# Altium footprint library MINIBLDC.PcbLib: 12 footprints
Each footprint in its own frame and in the unit in brackets; x right, y up, seen from the top. Pads: shape width x height; smd on the part's side, far side on the other; paste and mask are expansions set on the pad; w line width, h text height; cw(c..) or ccw(c..) is an arc to the next point about the centre after c.
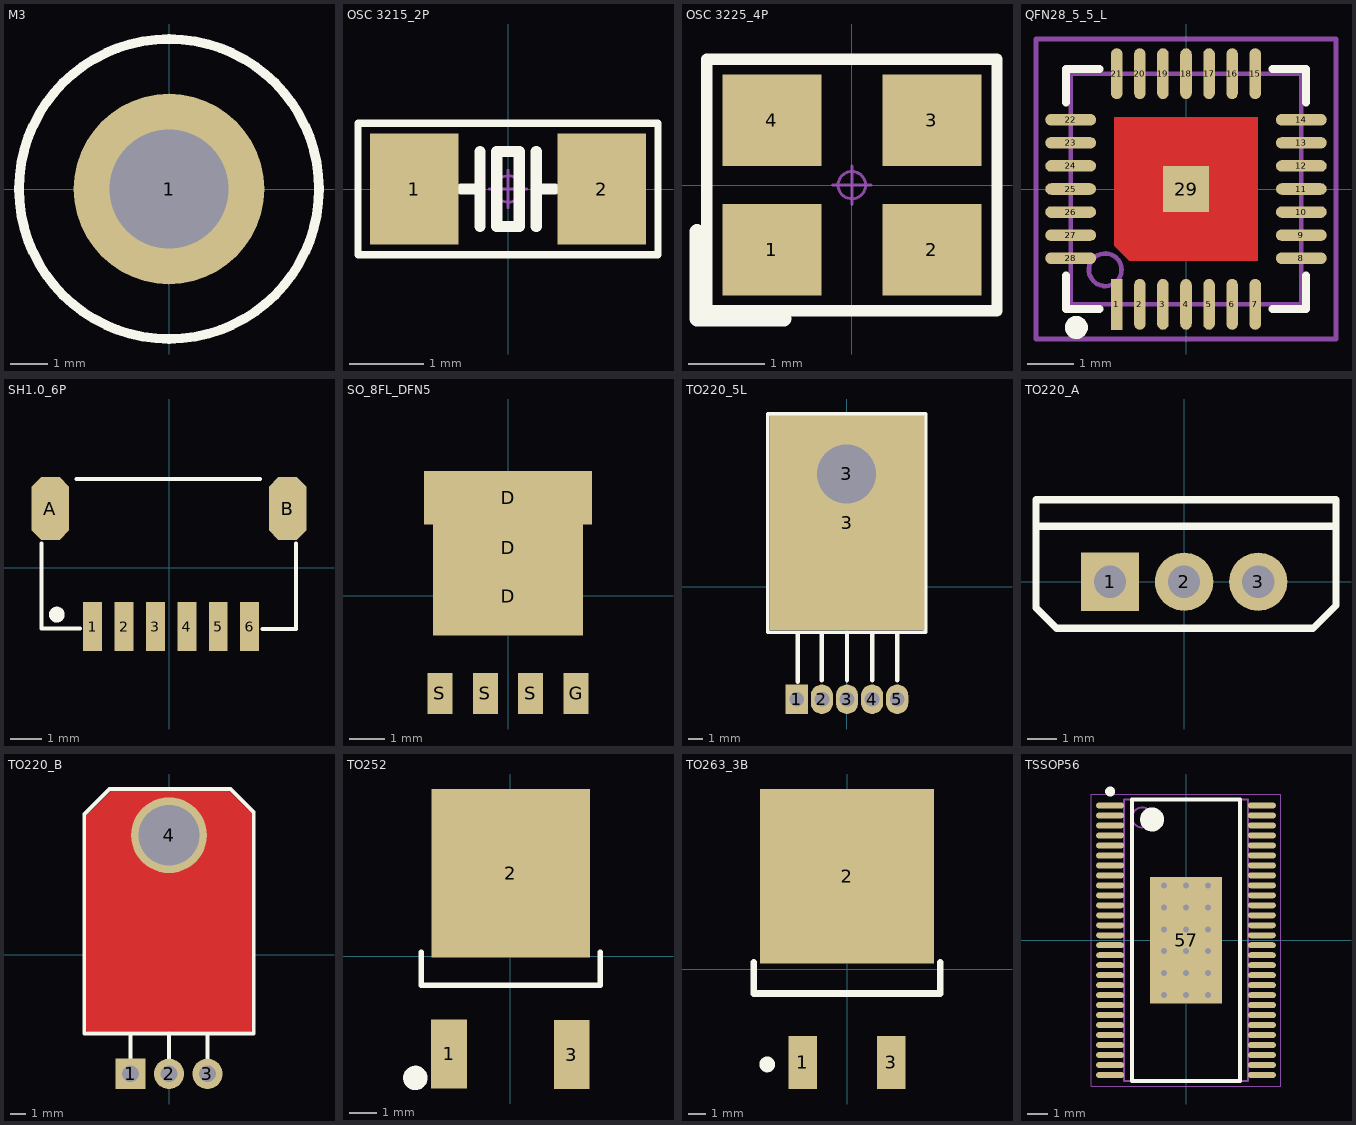
[diagram p0: the footprints below, top view; thin cyan lines are the x and y axes]

## M3 [mm]
pads (1):
  round 5.08 hole 3.175: 1(0,0)
Top Overlay:
  circle w0.254: c0,0 r4
3D body "M3x6.STEP": height -0.43, standoff -6.43, extent -2.698,-2.35 2.698,2.35

## OSC 3215_2P [mm]
pads (2):
  rect 1.2x1.5 smd: 1(-1.27,0) 2(1.27,0)
Top Overlay:
  lines w0.1: -2.032,-0.889 -2.032,0.889 2.032,0.889 2.032,-0.889 -2.032,-0.889
  lines w0.152: -0.635,0 -0.381,0 ; -0.381,-0.508 -0.381,0.508 ; 0.381,-0.508 0.381,0.508 ; 0.381,0 0.635,0 ; -0.152,-0.508 0.152,-0.508 0.152,0.508 -0.152,0.508 -0.152,-0.508
Mechanical 15:
  circle w0.04: c0,0 r0.18
  lines w0.04: -0.254,0 0.254,0 ; 0,-0.254 0,0.254
3D body "OSC 3215-2.STEP": height 0.61, standoff -0.01, extent -1.6,-0.75 1.6,0.75

## OSC 3225_4P [mm]
pads (4):
  rect 1.3x1.2 smd: 1(-1.05,-0.85) 2(1.05,-0.85) 3(1.05,0.85) 4(-1.05,0.85)
Top Overlay:
  lines w0.15: -1.905,-1.651 1.905,-1.651 1.905,1.651 -1.905,1.651 -1.905,-1.651
  lines w0.2: -2.032,-1.753 -0.889,-1.753 ; -2.032,-1.727 -2.032,-0.61
Mechanical 15:
  circle w0.04: c0,0 r0.18
  lines w0.04: -0.254,0 0.254,0 ; 0,-0.254 0,0.254
3D body "OSC 3225-4.STEP": height 0.7, standoff -0.02, extent -1.6,-1.25 1.6,1.25

## QFN28_5_5_L [mm]
pads (29):
  rect 0.25x1.1 smd: 1(-1.5,-2.5)
  oval 0.25x1.1 smd: 2(-1,-2.5) 3(-0.5,-2.5) 4(0,-2.5) 5(0.5,-2.5) 6(1,-2.5) 7(1.5,-2.5) 15(1.5,2.5) 16(1,2.5) 17(0.5,2.5) 18(0,2.5) 19(-0.5,2.5) 20(-1,2.5) 21(-1.5,2.5)
  oval 1.1x0.25 smd: 8(2.5,-1.5) 9(2.5,-1) 10(2.5,-0.5) 11(2.5,0) 12(2.5,0.5) 13(2.5,1) 14(2.5,1.5) 22(-2.5,1.5) 23(-2.5,1) 24(-2.5,0.5) 25(-2.5,0) 26(-2.5,-0.5) 27(-2.5,-1) 28(-2.5,-1.5)
  rect 1x1 smd: 29(0,0)
Top Layer:
  region: -1.55,1.55 1.55,1.55 1.55,-1.55 -1.225,-1.55 -1.55,-1.225
Top Overlay:
  circle w0.25: c-2.375,-3 r0.125
  lines w0.178: -2.6,-1.875 -2.6,-2.6 -1.875,-2.6 ; -2.6,1.875 -2.6,2.6 -1.875,2.6 ; 1.875,-2.6 2.6,-2.6 2.6,-1.875 ; 1.875,2.6 2.6,2.6 2.6,1.875
Mechanical 13:
  circle w0.1: c-1.75,-1.75 r0.354
  lines w0.1: -2.501,-2.501 2.501,-2.501 2.5,2.501 -2.501,2.501 -2.501,-2.501
Mechanical 15:
  circle w0.05: c0,0 r0.35
  lines w0.05: -0.5,0 0.5,0 ; 0,-0.5 0,0.5
  lines w0.1: -3.25,-3.25 -3.25,3.25 3.25,3.25 3.25,-3.25 -3.25,-3.25
3D body "QFN28-5X5.STEP": height 0.75, standoff -0.05, extent -2.51,-2.51 2.51,2.51

## SH1.0_6P [mm]
pads (8):
  rect 0.6x1.55 smd: 1(-2.432,-1.88) 2(-1.432,-1.88) 3(-0.432,-1.88) 4(0.568,-1.88) 5(1.568,-1.88) 6(2.568,-1.88)
  oct 1.2x2 smd: A(-3.778,1.88) B(3.778,1.88)
Top Overlay:
  circle w0.25: c-3.575,-1.499 r0.125
  lines w0.127: -4.057,0.773 -4.057,-1.944 -2.832,-1.944 ; -2.94,2.819 2.902,2.819 ; 2.979,-1.956 4.045,-1.956 4.045,0.762
3D body "User Library-JST - SM06B-SRSS-TB (SH SERIES - 1_0mm PITCH WIRE-TO-BOARD, SMT, RA).step": height 2.9, standoff 0, extent -3.929,-2.515 4.071,2.435

## SO_8FL_DFN5 [mm]
pads (7):
  rect 4.2x2.2 smd paste-10 mask+0.075: D(0,-0.012) D(0,1.338)
  rect 4.7x1.5 smd paste-10 mask+0.075: D(0,2.738)
  rect 0.7x1.15 smd paste-0.05 mask+0.075: G(1.905,-2.737) S(-1.905,-2.737) S(-0.635,-2.737) S(0.635,-2.737)
Top Paste:
  region: -2.2,2.088 -2,2.088 -2,-1.012 2,-1.012 2,2.088 2.2,2.088 2.2,3.388 -2.2,3.388
Bottom Solder:
  region: -1,-0.312 0.9,-0.313 1.4,0.188 1.4,2.988 -1.5,2.988 -1.5,0.988 -1.5,0.188
3D body "User Library-DFN5x6_SO8FL.STEP": height 1.13, standoff 0, extent -2.575,-2.962 2.575,3.188

## TO220_5L [mm]
pads (7):
  rect 1.5x2 hole 1: 1(-3.4,-7.623)
  oval 1.5x2 hole 1: 2(-1.7,-7.623) 3(0,-7.623) 4(1.7,-7.623) 5(3.4,-7.623)
  round 4.2 hole 4: 3(-0.022,7.623)
  rect 10.5x14.5 smd: 3(0,4.315)
Top Overlay:
  lines w0.254: -5.356,-3.095 -3.832,-3.095 5.312,-3.095 5.312,11.681 -5.356,11.681 -5.356,-3.095
  lines w0.3: -3.324,-6.429 -3.324,-3.254 ; -1.7,-6.353 -1.7,-3.178 ; 0,-6.353 0,-3.178 ; 1.7,-6.353 1.7,-3.178 ; 3.4,-6.353 3.4,-3.178
3D body "TO220-5C.STEP": height 4.5, standoff -3, extent -5.05,-7.848 5.05,10.477

## TO220_A [mm]
pads (3):
  rect 2x2 hole 1.1: 1(-2.54,0)
  round 2 hole 1.1: 2(0,0) 3(2.54,0)
Top Overlay:
  lines w0.254: -4.928,1.905 5.131,1.905 ; -5.08,-0.889 -4.369,-1.6 4.42,-1.6 5.207,-0.813 5.207,2.819 -5.08,2.819 -5.08,-0.889
3D body "TO220A.STEP": height 18.5, standoff -4, extent -5.15,-1.53 5.15,2.9

## TO220_B [mm]
pads (4):
  rect 2x2 hole 1.1: 1(-2.54,-7.874)
  round 2 hole 1.1: 2(0,-7.874) 3(2.54,-7.874)
  round 5 hole 4: 4(0,7.874)
Top Layer:
  rectangle: 3.81,9.652 4.445,10.16
  rectangle: 4.445,9.017 5.143,9.461
  rectangle: -4.826,9.144 -4.572,9.652
  rectangle: -4.318,9.779 -3.81,10.16
  rectangle: -4.572,9.017 -3.81,9.779
  rectangle: 4.064,9.017 4.699,9.906
  rectangle: -3.81,9.017 4.064,10.668
  rectangle: -5.334,-4.953 5.334,9.144
  lines w0.254: -5.207,9.017 -3.81,10.414 ; -4.826,9.144 -3.81,10.16 ; 3.937,10.414 4.826,9.398 5.334,9.144 4.699,9.652 ; -5.334,-4.953 -5.08,-4.953 5.334,-4.953 5.334,-4.445 5.334,9.271 4.953,9.652 3.937,10.668 3.429,10.668 -3.81,10.668 -4.826,9.652 -5.334,9.144 -5.334,8.763 -5.334,-4.953
Top Overlay:
  lines w0.254: -2.54,-7.137 -2.54,-5.207 ; 0,-7.163 0,-5.207 ; 2.54,-7.188 2.54,-5.207 ; -5.588,-5.207 -5.588,9.271 -3.937,10.922 4.064,10.922 5.588,9.398 5.588,-5.207 -5.588,-5.207
Top Solder:
  region: 5.347,9.233 3.912,10.668 3.162,9.919 4.597,8.484
  region: -4.508,8.319 -2.985,9.843 -3.81,10.668 -5.334,9.144
  rectangle: -3.81,9.017 3.912,10.668
  rectangle: -5.334,-4.953 5.347,9.233
3D body "TO220B.STEP": height 4.43, standoff -3, extent -5.15,-8.124 5.15,10.626

## TO252 [mil]
pads (3):
  rect 52x100 smd: 1(-89,-142.06) 3(89,-143.06)
  rect 230x245 smd: 2(0.55,120)
Top Overlay:
  circle w19.68: c-138,-177 r7.87
  lines w7.87: -129.45,5.27 -129.45,-42.29 130.55,-42.29 130.55,5.27
3D body "CircuitWorks-TO-252.step": height 90.55, standoff 0, extent -129.53,-165 129.53,216.89

## TO263_3B [mil]
pads (3):
  rect 65x120 smd: 1(-100,-210) 3(100,-210)
  rect 393.7x393.7 smd: 2(0,210)
Top Overlay:
  circle w19.68: c-180,-214.61 r7.87
  lines w15: -210,15.39 -210,-54.61 210,-54.61 210,15.39
3D body "TO263.STEP": height 177.17, standoff -0.26, extent -196.85,-215.91 196.85,371.9

## TSSOP56 [mm]
pads (57):
  oval 1.4x0.3 smd: 1(-3.8,6.75) 2(-3.8,6.25) 3(-3.8,5.75) 4(-3.8,5.25) 5(-3.8,4.75) 6(-3.8,4.25) 7(-3.8,3.75) 8(-3.8,3.25) 9(-3.8,2.75) 10(-3.8,2.25) 11(-3.8,1.75) 12(-3.8,1.25) 13(-3.8,0.75) 14(-3.8,0.25) 15(-3.8,-0.25) 16(-3.8,-0.75) 17(-3.8,-1.25) 18(-3.8,-1.75) 19(-3.8,-2.25) 20(-3.8,-2.75) 21(-3.8,-3.25) 22(-3.8,-3.75) 23(-3.8,-4.25) 24(-3.8,-4.75) 25(-3.8,-5.25) 26(-3.8,-5.75) 27(-3.8,-6.25) 28(-3.8,-6.75) 29(3.8,-6.75) 30(3.8,-6.25) 31(3.8,-5.75) 32(3.8,-5.25) 33(3.8,-4.75) 34(3.8,-4.25) 35(3.8,-3.75) 36(3.8,-3.25) 37(3.8,-2.75) 38(3.8,-2.25) 39(3.8,-1.75) 40(3.8,-1.25) 41(3.8,-0.75) 42(3.8,-0.25) 43(3.8,0.25) 44(3.8,0.75) 45(3.8,1.25) 46(3.8,1.75) 47(3.8,2.25) 48(3.8,2.75) 49(3.8,3.25) 50(3.8,3.75) 51(3.8,4.25) 52(3.8,4.75) 53(3.8,5.25) 54(3.8,5.75) 55(3.8,6.25) 56(3.8,6.75)
  rect 3.61x6.35 smd: 57(0,0)
via -1.1,2.75 diameter 0.7 hole 0.3
via 0,2.75 diameter 0.7 hole 0.3
via 1.1,2.75 diameter 0.7 hole 0.3
via -1.1,1.65 diameter 0.7 hole 0.3
via 0,1.65 diameter 0.7 hole 0.3
via 1.1,1.65 diameter 0.7 hole 0.3
via -1.1,0.55 diameter 0.7 hole 0.3
via 0,0.55 diameter 0.7 hole 0.3
via 1.1,0.55 diameter 0.7 hole 0.3
via -1.1,-0.55 diameter 0.7 hole 0.3
via 0,-0.55 diameter 0.7 hole 0.3
via 1.1,-0.55 diameter 0.7 hole 0.3
via -1.1,-1.65 diameter 0.7 hole 0.3
via 0,-1.65 diameter 0.7 hole 0.3
via 1.1,-1.65 diameter 0.7 hole 0.3
via -1.1,-2.75 diameter 0.7 hole 0.3
via 0,-2.75 diameter 0.7 hole 0.3
via 1.1,-2.75 diameter 0.7 hole 0.3
Top Overlay:
  circle w0.25: c-3.8,7.45 r0.125
  circle w0.6: c-1.7,6.05 r0.3
  lines w0.2: -2.7,-7.05 -2.7,7.05 2.7,7.05 2.7,-7.05 -2.7,-7.05
Mechanical 13:
  circle w0.1: c-2.2,6.15 r0.5
  lines w0.1: -3.1,-7.05 -3.1,7.05 3.1,7.05 3.1,-7.05 -3.1,-7.05
Mechanical 15:
  lines w0.05: -4.75,-7.3 -4.75,7.3 4.75,7.3 4.75,-7.3 -4.75,-7.3
  lines w0.1: -0.5,0 0.5,0 ; 0,-0.5 0,0.5
3D body "User Library-TSSOP-56.STEP": height 1.14, standoff -0.4, extent -4.064,-7.04 4.081,7.04